# Altium footprint library Connectors Barrel Audio.PcbLib: 1 footprints
Each footprint in its own frame and in the unit in brackets; x right, y up, seen from the top. Pads: shape width x height; smd on the part's side, far side on the other; paste and mask are expansions set on the pad; w line width, h text height; cw(c..) or ccw(c..) is an arc to the next point about the centre after c.
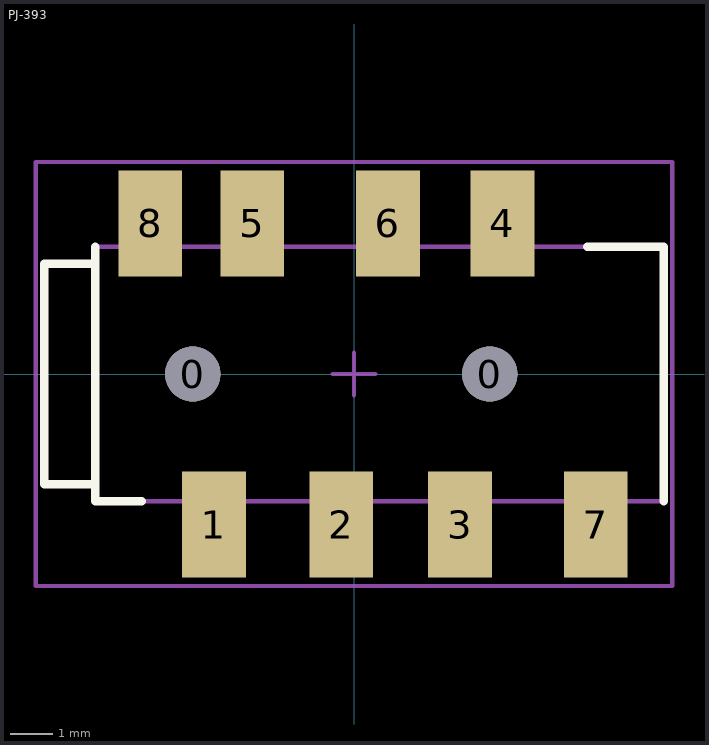
[diagram p0: the footprint, top view; thin cyan lines are the x and y axes]

## PJ-393 [mm] "Connector; Jack 3.5  4 conduction"
height 5
pads (10):
  round 1.3 hole 1.3: 0(-3.8,0) 0(3.2,0)
  rect 1.5x2.5 smd: 1(-3.3,-3.55) 2(-0.3,-3.55) 3(2.5,-3.55) 4(3.5,3.55) 5(-2.4,3.55) 6(0.8,3.55) 7(5.7,-3.55) 8(-4.8,3.55)
Top Overlay:
  lines w0.2: -6.1,-2.6 -7.3,-2.6 -7.3,2.6 -6.1,2.6 ; -6.1,3 -6.1,-3 -5,-3 ; 5.5,3 7.3,3 7.3,-3
Top Comment:
  lines w0.1: -6.1,-2.6 -7.3,-2.6 -7.3,2.6 -6.1,2.6 ; -5.2,3 -5.2,4.2 -4.4,4.2 -4.4,3 ; -3.7,-3 -3.7,-4.2 -2.9,-4.2 -2.9,-3 ; -2.8,3 -2.8,4.2 -2,4.2 -2,3 ; -0.7,-3 -0.7,-4.2 0.1,-4.2 0.1,-3 ; 0.4,3 0.4,4.2 1.2,4.2 1.2,3 ; 2.1,-3 2.1,-4.2 2.9,-4.2 2.9,-3 ; 3.1,3 3.1,4.2 3.9,4.2 3.9,3 ; 5.3,-3 5.3,-4.2 6.1,-4.2 6.1,-3 ; -6.1,-3 7.3,-3 7.3,3 -6.1,3 -6.1,-3
  text ".Designator" at 0,0 h0.48
Top Border:
  lines w0.1: -0.5,0 0.5,0 ; 0,-0.5 0,0.5 ; -7.5,-5 -7.5,5 7.5,5 7.5,-5 -7.5,-5
3D body "SJ-43617.stp": height 5.6, standoff -0.1, extent -7.3,-4.3 6.7,4.3